# Altium footprint library PcbLib2.PcbLib: 3 footprints
Each footprint in its own frame and in the unit in brackets; x right, y up, seen from the top. Pads: shape width x height; smd on the part's side, far side on the other; paste and mask are expansions set on the pad; w line width, h text height; cw(c..) or ccw(c..) is an arc to the next point about the centre after c.
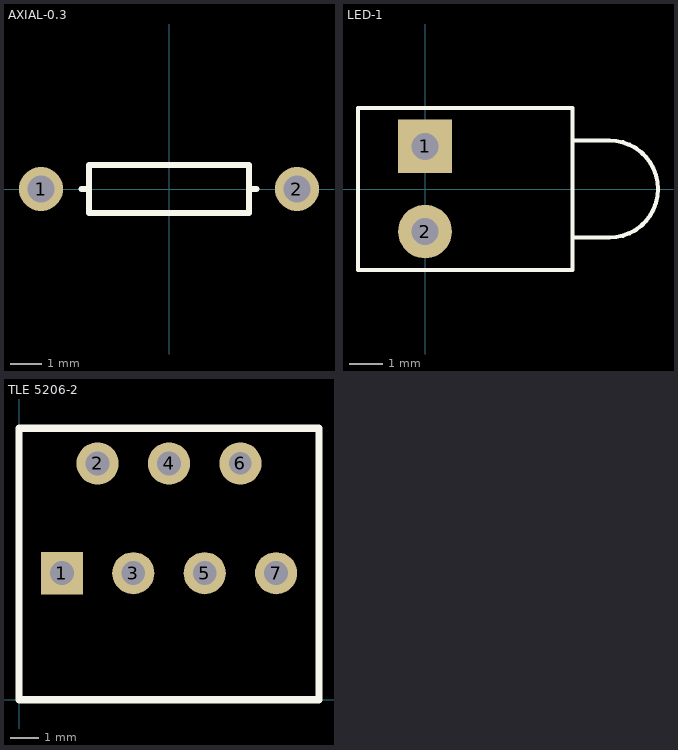
[diagram p0: the footprints below, top view; thin cyan lines are the x and y axes]

## AXIAL-0.3 [mm] "Axial Device, Thru-Hole; 2 Leads; 0.3 in Pin Spacing"
height 1.524
pads (2):
  round 1.4 hole 0.85: 1(-4.064,0) 2(4.064,0)
Top Overlay:
  lines w0.2: -2.769,0 -2.54,0 ; 2.769,0 2.54,0 ; 2.54,0 2.54,0.762 -2.54,0.762 -2.54,-0.762 2.54,-0.762 2.54,0

## LED-1 [mm] "LED; 2 Leads"
pads (2):
  rect 1.6x1.6 hole 0.8: 1(0,1.27)
  round 1.6 hole 0.8: 2(0,-1.27)
Top Overlay:
  lines w0.127: 4.4,-1.45 5.5,-1.45 ccw(c5.5,0) 5.5,1.45 4.4,1.45 ; -2,-2.413 4.4,-2.413 4.4,2.413 -2,2.413 -2,-2.413

## TLE 5206-2 [mm] "H-bridge bent legs"
pads (7):
  rect 1.5x1.5 hole 0.85: 1(1.524,4.5)
  round 1.5 hole 0.85: 2(2.794,8.4) 3(4.064,4.5) 4(5.334,8.4) 5(6.604,4.5) 7(9.144,4.5)
  round 1.5 hole 0.8: 6(7.874,8.4)
Top Overlay:
  lines w0.254: 0,0 0,9.652 10.668,9.652 10.668,0 0,0